# Altium schematic symbol library Cap_Murata_GCM1555C1H271FA16D_270pF.SchLib: 1 symbol
Pins are listed as number, name and electrical type; pins without a type are passive.

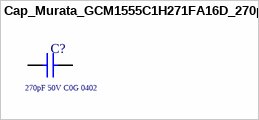
[diagram p0: symbol Cap_Murata_GCM1555C1H271FA16D_270pF]

## Cap_Murata_GCM1555C1H271FA16D_270pF
designator C?  Capacitance: 270pF 50V C0G 0402  (hidden comment: Cap_Murata_GCM1555C1H271FA16D_270pF)
CAP 270pF 50V C0G ±1% 0402; Supplier 1: Mouser; Supplier Part Number 1: 81-GCM1555C1H271FA6D
footprint Cap_Murata_GCM1555C1H271FA16D_270pF
pins: 1, 2